# EAGLE library part TS922IDT (library MSA_lib)
operational amplifiers
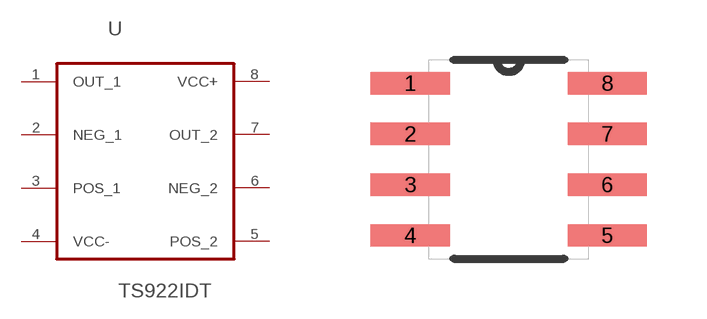
[diagram p33: symbol with the pads of SOIC8; footprint SOIC8]

Designator prefix U

## TS922IDT (MPN: TS922IDT; OC_FARNELL: 1642724; OC_NEWARK: 08P4888; PACKAGE: SOIC-8; SUPPLIER: STMICROELECTRONICS)  [SOIC8]
1  OUT_1  out
2  NEG_1  in
3  POS_1  in
4  VCC-  pwr
5  POS_2  in
6  NEG_2  in
7  OUT_2  out
8  VCC+  pwr

## Footprint SOIC8 (pad centres in mm)
smd 1.981 x 0.559: 1 -2.464,1.905; 2 -2.464,0.635; 3 -2.464,-0.635; 4 -2.464,-1.905; 5 2.464,-1.905; 6 2.464,-0.635; 7 2.464,0.635; 8 2.464,1.905